# Altium footprint library 1-Antenna.P.PcbLib: 44 footprints (part 3 of 3)
Each footprint in its own frame and in the unit in brackets; x right, y up, seen from the top. Pads: shape width x height; smd on the part's side, far side on the other; paste and mask are expansions set on the pad; w line width, h text height; cw(c..) or ccw(c..) is an arc to the next point about the centre after c.
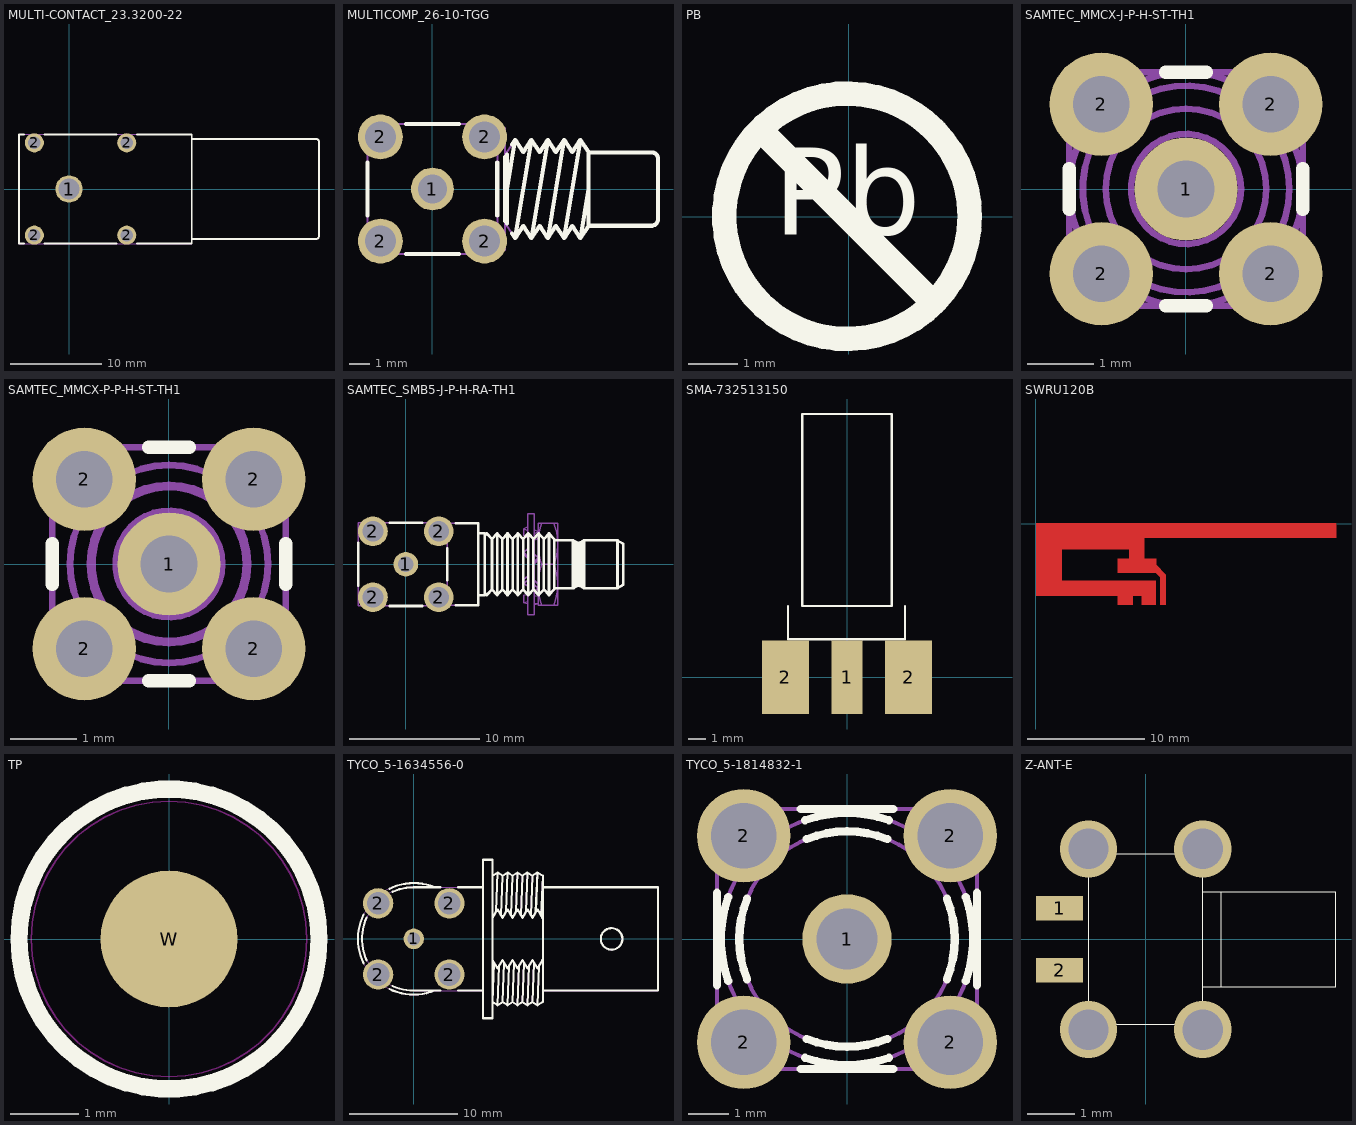
[diagram p2: the footprints below, top view; thin cyan lines are the x and y axes]

## MULTI-CONTACT_23.3200-22 [mm] "Multi-Contact Red Insulated ?4mm Angled Socket SLB4-I/90 For Banana 4mm"
height 11.5
pads (5):
  round 3 hole 2.3: 1(0,0)
  round 2.1 hole 1.4: 2(-3.81,-5.08) 2(-3.81,5.08) 2(6.35,-5.08) 2(6.35,5.08)
Top Overlay:
  lines w0.2: -4.931,-6 -5.5,-6 -5.5,6 -4.931,6 ; -2.689,-6 5.229,-6 ; -2.689,6 5.229,6 ; 7.471,-6 13.5,-6 13.5,6 7.471,6 ; 13.5,-5.5 27.2,-5.5 ccw(c27.2,-5.2) 27.5,-5.2 27.5,5.2 ccw(c27.2,5.2) 27.2,5.5 13.5,5.5
Mechanical 8:
  lines w0.1: -4.81,-5.08 -3.81,-5.08 ; -4.81,5.08 -3.81,5.08 ; -3.81,-6.08 -3.81,-5.08 ; -3.81,-4.08 -3.81,-5.08 ; -3.81,4.08 -3.81,5.08 ; -3.81,6.08 -3.81,5.08 ; -2.81,-5.08 -3.81,-5.08 ; -2.81,5.08 -3.81,5.08 ; -1,0 0,0 ; 0,-1 0,0 ; 0,1 0,0 ; 1,0 0,0 ; 5.35,-5.08 6.35,-5.08 ; 5.35,5.08 6.35,5.08 ; 6.35,-6.08 6.35,-5.08 ; 6.35,-4.08 6.35,-5.08 ; 6.35,4.08 6.35,5.08 ; 6.35,6.08 6.35,5.08 ; 7.35,-5.08 6.35,-5.08 ; 7.35,5.08 6.35,5.08
Mechanical 14:
  lines w0.1: 13.5,-5.5 27.2,-5.5 ccw(c27.2,-5.2) 27.5,-5.2 27.5,5.2 ccw(c27.2,5.2) 27.2,5.5 13.5,5.5 ; -5.5,-6 -5.5,6 13.5,6 13.5,-6 -5.5,-6
3D body "v300023.stp": height 0.04, standoff -1.66, extent -1.5,-1.5 1.5,1.5
3D body "v210014.stp": height 0.04, standoff -1.66, extent 5.25,4.01 7.35,6.11
3D body "v210014.stp": height 0.04, standoff -1.66, extent -4.9,4.03 -2.8,6.13
3D body "v210014.stp": height 0.04, standoff -1.66, extent -4.91,-6.15 -2.81,-4.05
3D body "v210014.stp": height 0.04, standoff -1.66, extent 5.25,-6.15 7.35,-4.05
3D body "MULTI-CONTACT_23.3200-22.stp": height 12.3, standoff -3.4, extent -5.5,-6 27.5,6

## MULTICOMP_26-10-TGG [mm] "50 Ohm Right Angle PCB Mount SMC Jack Receptacle"
height 7.1
pads (5):
  round 2.1 hole 1.4: 1(0,0)
  round 2.2 hole 1.5: 2(-2.55,-2.55) 2(-2.55,2.55) 2(2.55,-2.55) 2(2.55,2.55)
Top Overlay:
  lines w0.2: -3.175,-1.297 -3.175,1.297 ; -1.297,-3.175 1.297,-3.175 ; -1.297,3.175 1.297,3.175 ; 3.175,-1.297 3.175,1.297 ; 3.55,-1.57 3.55,1.57 ; 3.65,-1.684 3.65,1.684 ; 3.65,0 4.05,2.41 ; 3.903,-2.189 4.05,-2.41 ; 3.903,2.189 4.05,2.41 ; 7.65,-1.8 10.75,-1.8 ; 7.65,0 7.25,-2.41 ; 7.65,1.79 10.75,1.79 cw(c10.75,1.49) 11.05,1.49 ; 10.75,-1.79 ccw(c10.75,-1.49) 11.05,-1.49 ; 11.05,-1.5 11.05,1.5 ; 4.05,-2.41 4.45,-1.81 4.85,-2.41 ; 4.05,-2.41 4.85,2.41 ; 4.05,2.41 4.45,1.81 4.85,2.41 ; 4.85,-2.41 5.25,-1.81 5.65,-2.41 ; 4.85,-2.41 5.65,2.41 ; 4.85,2.41 5.25,1.81 5.65,2.41 ; 5.65,-2.41 6.05,-1.81 6.45,-2.41 ; 5.65,-2.41 6.45,2.41 ; 5.65,2.41 6.05,1.81 6.45,2.41 ; 6.45,-2.41 6.85,-1.81 7.25,-2.41 ; 6.45,-2.41 7.25,2.41 ; 6.45,2.41 6.85,1.81 7.25,2.41 ; 7.25,-2.41 7.65,-1.81 ; 7.25,2.41 7.65,1.81 ; 7.65,-1.81 7.65,1.81 ; 7.65,-1.81 7.65,1.81
Mechanical 8:
  lines w0.1: -3.05,-2.55 -2.55,-2.55 ; -3.05,2.55 -2.55,2.55 ; -2.55,-3.05 -2.55,-2.55 ; -2.55,-2.05 -2.55,-2.55 ; -2.55,2.05 -2.55,2.55 ; -2.55,3.05 -2.55,2.55 ; -2.05,-2.55 -2.55,-2.55 ; -2.05,2.55 -2.55,2.55 ; -0.5,0 0,0 ; 0,-0.5 0,0 ; 0,0.5 0,0 ; 0.5,0 0,0 ; 2.05,-2.55 2.55,-2.55 ; 2.05,2.55 2.55,2.55 ; 2.55,-3.05 2.55,-2.55 ; 2.55,-2.05 2.55,-2.55 ; 2.55,2.05 2.55,2.55 ; 2.55,3.05 2.55,2.55 ; 3.05,-2.55 2.55,-2.55 ; 3.05,2.55 2.55,2.55
Mechanical 14:
  lines w0.1: 3.175,-3 3.55,-3 3.55,3 3.175,3 ; 3.55,-1.81 3.65,-1.81 ; 3.55,1.81 3.65,1.81 ; 3.65,0 4.05,2.41 ; 7.65,-1.8 10.75,-1.8 ; 7.65,0 7.25,-2.41 ; 7.65,1.79 10.75,1.79 cw(c10.75,1.49) 11.05,1.49 ; 10.75,-1.79 ccw(c10.75,-1.49) 11.05,-1.49 ; 11.05,-1.5 11.05,1.5 ; 3.65,-1.81 4.05,-2.41 ; 3.65,-1.81 3.65,1.81 ; 3.65,1.81 4.05,2.41 ; 4.05,-2.41 4.45,-1.81 4.85,-2.41 ; 4.05,-2.41 4.85,2.41 ; 4.05,2.41 4.45,1.81 4.85,2.41 ; 4.85,-2.41 5.25,-1.81 5.65,-2.41 ; 4.85,-2.41 5.65,2.41 ; 4.85,2.41 5.25,1.81 5.65,2.41 ; 5.65,-2.41 6.05,-1.81 6.45,-2.41 ; 5.65,-2.41 6.45,2.41 ; 5.65,2.41 6.05,1.81 6.45,2.41 ; 6.45,-2.41 6.85,-1.81 7.25,-2.41 ; 6.45,-2.41 7.25,2.41 ; 6.45,2.41 6.85,1.81 7.25,2.41 ; 7.25,-2.41 7.65,-1.81 ; 7.25,2.41 7.65,1.81 ; 7.65,-1.81 7.65,1.81 ; 7.65,-1.81 7.65,1.81 ; -3.175,-3.175 3.175,-3.175 3.175,3.175 -3.175,3.175 -3.175,-3.175
3D body "v210014.stp": height 0.04, standoff -1.66, extent -3.6,-3.6 -1.5,-1.5
3D body "v210014.stp": height 0.04, standoff -1.66, extent -3.6,1.53 -1.5,3.63
3D body "v210014.stp": height 0.04, standoff -1.66, extent 1.4,1.53 3.5,3.63
3D body "v210014.stp": height 0.04, standoff -1.66, extent -1.1,-1.07 1,1.03
3D body "v220015.stp": height 0.04, standoff -1.66, extent 1.45,-3.65 3.65,-1.45
3D body "MULTICOMP_26-10-TGG.stp": height 7.1, standoff -3.9, extent -3.175,-3.175 11.05,3.175

## PB [mm]
Top Overlay:
  circle w0.5: c-0.031,0.013 r2.5
  lines w0.5: -1.737,1.719 1.675,-1.693
  text "Pb" at -1.536,-0.948 h3.05
3D body "pb.stp": height 0.02, standoff 0, extent -2.725,-2.725 2.725,2.725

## SAMTEC_MMCX-J-P-H-ST-TH1 [mm] "Straight Through-hole 50 Ohm Micro Mini RF Jack, MMCX Serie"
height 4.35
pads (5):
  round 1.55 hole 0.85: 1(0,0) 2(-1.27,-1.27) 2(-1.27,1.27) 2(1.27,-1.27) 2(1.27,1.27)
Top Overlay:
  lines w0.2: -1.75,-0.308 -1.75,0.308 ; -0.308,-1.75 0.308,-1.75 ; -0.308,1.75 0.308,1.75 ; 1.75,-0.308 1.75,0.308
Mechanical 8:
  lines w0.1: -1.77,-1.27 -1.27,-1.27 ; -1.77,1.27 -1.27,1.27 ; -1.27,-1.77 -1.27,-1.27 ; -1.27,-0.77 -1.27,-1.27 ; -1.27,0.77 -1.27,1.27 ; -1.27,1.77 -1.27,1.27 ; -0.77,-1.27 -1.27,-1.27 ; -0.77,1.27 -1.27,1.27 ; -0.5,0 0,0 ; 0,-0.5 0,0 ; 0,0.5 0,0 ; 0.5,0 0,0 ; 0.77,-1.27 1.27,-1.27 ; 0.77,1.27 1.27,1.27 ; 1.27,-1.77 1.27,-1.27 ; 1.27,-0.77 1.27,-1.27 ; 1.27,0.77 1.27,1.27 ; 1.27,1.77 1.27,1.27 ; 1.77,-1.27 1.27,-1.27 ; 1.77,1.27 1.27,1.27
Mechanical 14:
  circle w0.1: c0,0 r1.205
  circle w0.1: c0,0 r0.825
  circle w0.1: c0.002,0 r0.251
  circle w0.1: c0,0 r1.75
  circle w0.1: c0,0 r1.549
  lines w0.1: -1.75,-1.414 ccw(c0,0) -1.414,-1.75 1.414,-1.75 ccw(c0,0) 1.75,-1.414 1.75,1.414 ccw(c0,0) 1.414,1.75 -1.414,1.75 ccw(c0,0) -1.75,1.414 -1.75,-1.414
3D body "v155000085.stp": height 0.04, standoff -1.66, extent 0.495,-2.045 2.045,-0.495
3D body "v155000085.stp": height 0.04, standoff -1.66, extent -2.045,-2.045 -0.495,-0.495
3D body "v155000085.stp": height 0.04, standoff -1.66, extent -2.075,0.525 -0.525,2.075
3D body "v155000085.stp": height 0.04, standoff -1.66, extent 0.495,0.495 2.045,2.045
3D body "v155000085.stp": height 0.04, standoff -1.66, extent -0.775,-0.775 0.775,0.775
3D body "SAMTEC_MMCX-J-P-H-ST-TH1.stp": height 4.35, standoff -3.05, extent -1.75,-1.75 1.75,1.75

## SAMTEC_MMCX-P-P-H-ST-TH1 [mm] "Straight Through-hole 50 Ohm Micro Mini RF Plug, MMCX Serie"
height 4.35
pads (5):
  round 1.55 hole 0.85: 1(0,0) 2(-1.27,-1.27) 2(-1.27,1.27) 2(1.27,-1.27) 2(1.27,1.27)
Top Overlay:
  lines w0.2: -1.75,-0.308 -1.75,0.308 ; -0.308,-1.75 0.308,-1.75 ; -0.308,1.75 0.308,1.75 ; 1.75,-0.308 1.75,0.308
Mechanical 8:
  circle w0.1: c0,0 r1.15
  lines w0.1: -1.77,-1.27 -1.27,-1.27 ; -1.77,1.27 -1.27,1.27 ; -1.27,-1.77 -1.27,-1.27 ; -1.27,-0.77 -1.27,-1.27 ; -1.27,0.77 -1.27,1.27 ; -1.27,1.77 -1.27,1.27 ; -0.77,-1.27 -1.27,-1.27 ; -0.77,1.27 -1.27,1.27 ; -0.5,0 0,0 ; 0,-0.5 0,0 ; 0,0.5 0,0 ; 0.5,0 0,0 ; 0.77,-1.27 1.27,-1.27 ; 0.77,1.27 1.27,1.27 ; 1.27,-1.77 1.27,-1.27 ; 1.27,-0.77 1.27,-1.27 ; 1.27,0.77 1.27,1.27 ; 1.27,1.77 1.27,1.27 ; 1.77,-1.27 1.27,-1.27 ; 1.77,1.27 1.27,1.27
Mechanical 14:
  circle w0.1: c0,0 r0.8
  circle w0.1: c0,0 r1.19
  circle w0.1: c0,0 r1.485
  circle w0.1: c0,0 r0.05
  circle w0.1: c0,0 r0.138
  lines w0.1: -1.75,-1.414 ccw(c0,0) -1.414,-1.75 1.414,-1.75 ccw(c0,0) 1.75,-1.414 1.75,1.414 ccw(c0,0) 1.414,1.75 -1.414,1.75 ccw(c0,0) -1.75,1.414 -1.75,-1.414
3D body "SAMTEC_MMCX-P-P-H-ST-TH1.stp": height 4.35, standoff -3.05, extent -1.75,-1.75 1.75,1.75
3D body "v155000085.stp": height 0.04, standoff -1.66, extent 0.495,-2.045 2.045,-0.495
3D body "v155000085.stp": height 0.04, standoff -1.66, extent -0.775,-0.775 0.775,0.775
3D body "v155000085.stp": height 0.04, standoff -1.66, extent 0.495,0.495 2.045,2.045
3D body "v155000085.stp": height 0.04, standoff -1.66, extent -2.045,0.495 -0.495,2.045
3D body "v155000085.stp": height 0.04, standoff -1.66, extent -2.045,-2.045 -0.495,-0.495

## SAMTEC_SMB5-J-P-H-RA-TH1 [mm] "50 Ohm SMB Right Angle PCB Jack"
height 8.13
pads (5):
  round 1.9 hole 1.2: 1(0,0)
  round 2.3 hole 1.6: 2(-2.54,-2.54) 2(-2.54,2.54) 2(2.54,-2.54) 2(2.54,2.54)
Top Overlay:
  lines w0.2: -3.68,-1.644 -3.68,1.644 ; -1.257,-3.215 1.257,-3.215 ; -1.257,3.215 1.257,3.215 ; 3.844,-3.174 5.59,-3.174 5.59,3.174 3.844,3.174 ; 5.59,-2.4 6.09,-2.4 6.09,2.4 5.59,2.4 ; 6.09,-2.214 6.24,-2.38 6.64,-1.937 ; 6.09,2.214 6.24,2.38 6.64,1.937 ; 11.44,-1.84 12.872,-1.84 ; 11.44,1.84 12.872,1.84 ; 6.64,-1.937 7.04,-2.38 ; 6.64,-1.937 6.64,1.937 ; 6.64,1.937 7.04,2.38 ; 7.04,-2.38 7.44,-1.937 ; 7.04,-2.38 7.04,2.38 ; 7.04,2.38 7.44,1.937 ; 7.44,-1.937 7.84,-2.38 ; 7.44,-1.937 7.44,1.937 ; 7.44,1.937 7.84,2.38 ; 7.84,-2.38 8.24,-1.937 ; 7.84,-2.38 7.84,2.38 ; 7.84,2.38 8.24,1.937 ; 8.24,-1.937 8.64,-2.38 ; 8.24,-1.937 8.24,1.937 ; 8.24,1.937 8.64,2.38 ; 8.64,-2.38 9.04,-1.937 ; 8.64,-2.38 8.64,2.38 ; 8.64,2.38 9.04,1.937 ; 9.04,-1.937 9.44,-2.38 ; 9.04,-1.937 9.04,1.937 ; 9.04,1.937 9.44,2.38 ; 9.44,-2.38 9.84,-1.937 ; 9.44,-2.38 9.44,2.38 ; 9.44,2.38 9.84,1.937 ; 9.84,-1.937 10.24,-2.38 ; 9.84,-1.937 9.84,1.937 ; 9.84,1.937 10.24,2.38 ; 10.24,-2.38 10.64,-1.937 ; 10.24,-2.38 10.24,2.38 ; 10.24,2.38 10.64,1.937 ; 10.64,-1.937 11.04,-2.38 ; 10.64,-1.937 10.64,1.937 ; 10.64,1.937 11.04,2.38 ; 11.04,-2.38 11.44,-1.937 11.44,1.937 11.04,2.38 ; 11.04,-2.38 11.04,2.38 ; 12.872,-1.84 ccw(c12.872,-1.689) 12.952,-1.817 ; 12.872,-1.84 12.872,1.84 ; 12.872,1.84 cw(c12.872,1.689) 12.952,1.817 ; 12.952,-1.817 12.952,1.817 ; 12.952,-1.817 13.156,-1.689 ; 12.952,1.817 13.156,1.689 ; 13.156,-1.689 cw(c13.22,-1.792) 13.22,-1.671 ; 13.156,-1.689 13.156,1.689 ; 13.156,1.689 ccw(c13.22,1.792) 13.22,1.671 ; 13.22,-1.671 13.22,1.671 ; 13.22,-1.671 13.42,-1.671 ; 13.22,1.671 13.42,1.671 ; 13.42,-1.671 cw(c13.42,-1.791) 13.484,-1.689 ; 13.42,-1.671 13.42,1.671 ; 13.42,1.671 ccw(c13.42,1.791) 13.484,1.689 ; 13.484,-1.689 13.484,1.689 ; 13.484,-1.689 13.688,-1.817 ; 13.484,1.689 13.688,1.817 ; 13.688,-1.817 ccw(c13.768,-1.689) 13.768,-1.84 ; 13.688,-1.817 13.688,1.817 ; 13.688,1.817 cw(c13.768,1.689) 13.768,1.84 ; 13.768,-1.84 13.768,1.84 ; 13.768,-1.84 16.32,-1.84 ; 13.768,1.84 16.32,1.84 ; 16.32,-1.84 16.77,-1.582 16.77,1.582 16.32,1.84 ; 16.32,-1.84 16.32,1.84 ; 3.18,-1.239 3.18,1.239 3.18,-1.239
Mechanical 8:
  lines w0.1: -3.04,-2.54 -2.54,-2.54 ; -3.04,2.54 -2.54,2.54 ; -2.54,-3.04 -2.54,-2.54 ; -2.54,-2.04 -2.54,-2.54 ; -2.54,2.04 -2.54,2.54 ; -2.54,3.04 -2.54,2.54 ; -2.04,-2.54 -2.54,-2.54 ; -2.04,2.54 -2.54,2.54 ; -0.5,0 0,0 ; 0,-0.5 0,0 ; 0,0.5 0,0 ; 0.5,0 0,0 ; 2.04,-2.54 2.54,-2.54 ; 2.04,2.54 2.54,2.54 ; 2.54,-3.04 2.54,-2.54 ; 2.54,-2.04 2.54,-2.54 ; 2.54,2.04 2.54,2.54 ; 2.54,3.04 2.54,2.54 ; 3.04,-2.54 2.54,-2.54 ; 3.04,2.54 2.54,2.54 ; 9.395,-2.34 9.105,-2.387 9.105,-2.973 ; 9.405,-3.045 9.105,-2.973 ; 9.405,-2.901 9.105,-2.973 ; 9.405,-1.677 9.105,-1.459 ; 9.405,-1.226 9.105,-1.459 ; 9.405,-0.927 9.105,-1.14 9.105,-1.459 ; 9.405,0.459 9.105,0.776 9.105,0.909 ; 9.405,0.592 9.105,0.909 ; 9.405,1.179 9.105,0.909 ; 9.405,2.064 9.105,2.237 9.105,2.744 ; 9.405,2.571 9.105,2.744 ; 9.405,2.892 9.105,2.744 ; 9.905,-3.135 10.205,-3.063 ; 9.905,-2.991 10.205,-3.063 ; 9.905,-2.078 10.205,-1.844 ; 9.905,-1.569 10.205,-1.844 ; 9.905,-1.249 10.205,-1.524 10.205,-1.844 ; 9.905,0.052 10.205,0.369 ; 9.905,0.185 10.205,0.502 9.905,0.772 ; 9.905,0.197 9.905,0.469 ; 9.905,1.847 10.205,1.995 10.205,2.502 ; 9.905,2.355 10.205,2.502 ; 9.905,2.675 10.205,2.502 ; 9.915,-2.43 10.205,-2.478 10.205,-3.063 ; 10.205,-3.073 10.205,-2.373 ; 10.489,-3.175 cw(c14.774,-1.587) 10.489,0 11.421,0 cw(c7.136,-1.587) 11.421,-3.175 ; 10.489,-0.019 cw(c14.824,1.578) 10.489,3.175 ; 11.421,-0.019 ccw(c7.086,1.578) 11.421,3.175 ; 9.905,-3.9 9.905,3.9 ; 9.905,-3.9 9.905,3.9 ; 9.905,-3.9 9.405,-3.9 9.405,3.9 9.905,3.9 ; 10.205,-3.175 11.705,-3.175 11.705,3.175 10.205,3.175 10.205,-3.175
Mechanical 14:
  circle w0.1: c0,0 r0.63
  lines w0.1: 3.18,-3.174 5.59,-3.174 5.59,3.174 3.18,3.174 ; 3.18,-3.149 3.18,3.149 ; 5.59,-2.4 6.09,-2.4 6.09,2.4 5.59,2.4 ; 6.09,-2.214 6.24,-2.38 6.64,-1.937 ; 6.09,2.214 6.24,2.38 6.64,1.937 ; 11.44,-1.84 12.872,-1.84 ; 11.44,1.84 12.872,1.84 ; 6.64,-1.937 7.04,-2.38 ; 6.64,-1.937 6.64,1.937 ; 6.64,1.937 7.04,2.38 ; 7.04,-2.38 7.44,-1.937 ; 7.04,-2.38 7.04,2.38 ; 7.04,2.38 7.44,1.937 ; 7.44,-1.937 7.84,-2.38 ; 7.44,-1.937 7.44,1.937 ; 7.44,1.937 7.84,2.38 ; 7.84,-2.38 8.24,-1.937 ; 7.84,-2.38 7.84,2.38 ; 7.84,2.38 8.24,1.937 ; 8.24,-1.937 8.64,-2.38 ; 8.24,-1.937 8.24,1.937 ; 8.24,1.937 8.64,2.38 ; 8.64,-2.38 9.04,-1.937 ; 8.64,-2.38 8.64,2.38 ; 8.64,2.38 9.04,1.937 ; 9.04,-1.937 9.44,-2.38 ; 9.04,-1.937 9.04,1.937 ; 9.04,1.937 9.44,2.38 ; 9.44,-2.38 9.84,-1.937 ; 9.44,-2.38 9.44,2.38 ; 9.44,2.38 9.84,1.937 ; 9.84,-1.937 10.24,-2.38 ; 9.84,-1.937 9.84,1.937 ; 9.84,1.937 10.24,2.38 ; 10.24,-2.38 10.64,-1.937 ; 10.24,-2.38 10.24,2.38 ; 10.24,2.38 10.64,1.937 ; 10.64,-1.937 11.04,-2.38 ; 10.64,-1.937 10.64,1.937 ; 10.64,1.937 11.04,2.38 ; 11.04,-2.38 11.44,-1.937 11.44,1.937 11.04,2.38 ; 11.04,-2.38 11.04,2.38 ; 12.872,-1.84 ccw(c12.872,-1.689) 12.952,-1.817 ; 12.872,-1.84 12.872,1.84 ; 12.872,1.84 cw(c12.872,1.689) 12.952,1.817 ; 12.952,-1.817 12.952,1.817 ; 12.952,-1.817 13.156,-1.689 ; 12.952,1.817 13.156,1.689 ; 13.156,-1.689 cw(c13.22,-1.792) 13.22,-1.671 ; 13.156,-1.689 13.156,1.689 ; 13.156,1.689 ccw(c13.22,1.792) 13.22,1.671 ; 13.22,-1.671 13.22,1.671 ; 13.22,-1.671 13.42,-1.671 ; 13.22,1.671 13.42,1.671 ; 13.42,-1.671 cw(c13.42,-1.791) 13.484,-1.689 ; 13.42,-1.671 13.42,1.671 ; 13.42,1.671 ccw(c13.42,1.791) 13.484,1.689 ; 13.484,-1.689 13.484,1.689 ; 13.484,-1.689 13.688,-1.817 ; 13.484,1.689 13.688,1.817 ; 13.688,-1.817 ccw(c13.768,-1.689) 13.768,-1.84 ; 13.688,-1.817 13.688,1.817 ; 13.688,1.817 cw(c13.768,1.689) 13.768,1.84 ; 13.768,-1.84 13.768,1.84 ; 13.768,-1.84 16.32,-1.84 ; 13.768,1.84 16.32,1.84 ; 16.32,-1.84 16.77,-1.582 16.77,1.582 16.32,1.84 ; 16.32,-1.84 16.32,1.84 ; -3.68,-3.215 3.18,-3.215 3.18,3.215 -3.68,3.215 -3.68,-3.215
3D body "v230016.stp": height 0.04, standoff -1.66, extent 1.35,1.35 3.65,3.65
3D body "v230016.stp": height 0.04, standoff -1.66, extent -3.69,1.39 -1.39,3.69
3D body "v230016.stp": height 0.04, standoff -1.66, extent -1.15,-1.15 1.15,1.15
3D body "v230016.stp": height 0.04, standoff -1.66, extent 1.39,-3.69 3.69,-1.39
3D body "v230016.stp": height 0.04, standoff -1.66, extent -3.69,-3.69 -1.39,-1.39
3D body "SAMTEC_SMB5-J-P-H-RA-TH1.stp": height 8.13, standoff -2.79, extent -3.68,-3.215 16.77,3.215
3D body "SAMTEC_SMB5-J-P-H-RA-TH1_Washer.stp": height 8.4, standoff 0.6, extent 9.105,-3.899 10.205,3.899
3D body "SAMTEC_SMB5-J-P-H-RA-TH1_Nut.stp": height 8.17, standoff 0.83, extent 10.205,-3.175 11.705,3.175

## SMA-732513150 [mm]
height 5
pads (3):
  rect 1.78x4.19 smd: 1(0,0)
  rect 2.665x4.19 smd: 2(-3.5,0) 2(3.5,0)
Top Overlay:
  lines w0.127: -3.353,4.039 -3.353,2.159 3.302,2.159 3.302,4.039 ; -2.54,4.039 -2.54,14.961 2.54,14.961 2.54,4.039 -2.54,4.039
3D body "p1842.stp": height 0.01, standoff 0, extent -0.892,-2.092 0.908,2.108
3D body "p26642.stp": height 0.01, standoff 0, extent -4.805,-2.164 -2.145,2.036
3D body "p26642.stp": height 0.01, standoff 0, extent 2.162,-2.116 4.822,2.084
3D body "sma-732513150.stp": height 3.83, standoff -2.52, extent -3.175,-1.346 3.175,14.914

## SWRU120B [mm]
Top Layer:
  region: 0.021,0.014 25.581,0.014 25.581,-1.199 9.243,-1.199 9.243,-2.998 10.249,-2.998 10.249,-3.532 11.094,-4.377 11.094,-6.911 10.625,-6.911 10.625,-4.59 10.245,-4.21 6.972,-4.209 6.972,-2.998 7.977,-2.998 7.977,-2.198 2.218,-2.198 2.218,-4.87 10.245,-4.87 10.245,-6.911 9.017,-6.911 9.017,-6.17 8.267,-6.17 8.267,-6.911 6.972,-6.911 6.972,-6.17 0.021,-6.17
3D body "swru120b.stp": height 0.05, standoff 0, extent -0.005,-6.876 25.575,0.034

## TP [mm]
height 11.7
pads (1):
  round 2 smd mask+1: W(0,0)
Top Overlay:
  circle w0.254: c0,0 r2.195
Keep-Out Layer:
  circle w0.025: c0,0 r2.017
3D body "1_016-1_016-3_tp.stp": height 0.02, standoff 0, extent -1.5,-1.5 1.5,1.5

## TYCO_5-1634556-0 [mm] "Right Angle Bulkhead 75 Ohms BNC"
height 10.94
pads (5):
  round 1.9 hole 1.2: 1(0,0)
  round 2.8 hole 2.1: 2(-3.3,-3.3) 2(-3.3,3.3) 2(3.3,-3.3) 2(3.3,3.3)
Top Overlay:
  circle w0.2: c18.33,0 r1
  lines w0.2: -4.646,-2.262 cw(c0,-0.001) -4.646,2.261 ; -4.364,-1.974 cw(c0,0) -4.364,1.974 ; -2.262,-4.646 ccw(c0,-0.001) 1.939,-4.79 ; -2.261,4.645 cw(c0,-0.001) 1.935,4.79 ; -1.974,-4.364 ccw(c0,0) 0,-4.79 2.482,-4.79 ; -1.974,4.364 cw(c0,0) 0,4.79 2.482,4.79 ; 4.118,-4.79 6.42,-4.79 ; 4.118,4.79 6.42,4.79 ; 6.42,-7.35 7.31,-7.35 7.31,7.331 6.42,7.331 6.42,-7.331 ; 7.31,-1.965 7.77,-2.732 8.23,-1.965 8.69,-2.732 9.15,-1.965 9.61,-2.732 10.07,-1.965 10.53,-2.732 10.99,-1.965 11.45,-2.732 11.91,-1.965 11.96,-1.965 ; 7.31,1.965 7.77,2.732 8.23,1.965 8.69,2.732 9.15,1.965 9.61,2.732 10.07,1.965 10.53,2.732 10.99,1.965 11.45,2.732 11.91,1.965 11.96,1.965 ; 7.31,5.85 7.77,6.15 ; 7.45,-2.199 7.31,-5.85 7.77,-6.15 ; 7.63,2.499 7.77,6.15 ; 7.91,-2.499 7.77,-6.15 ; 8.09,2.199 8.23,5.85 ; 8.37,-2.199 8.23,-5.85 ; 8.55,2.499 8.69,6.15 ; 8.83,-2.499 8.69,-6.15 ; 9.01,2.199 9.15,5.85 ; 9.29,-2.199 9.15,-5.85 ; 9.47,2.499 9.61,6.15 ; 9.75,-2.499 9.61,-6.15 ; 9.93,2.199 10.07,5.85 ; 10.21,-2.199 10.07,-5.85 ; 10.39,2.499 10.53,6.15 ; 10.67,-2.499 10.53,-6.15 ; 10.85,2.199 10.99,5.85 ; 11.13,-2.199 10.99,-5.85 ; 11.31,2.499 11.45,6.15 ; 11.606,-2.471 11.45,-6.15 ; 11.803,2.144 11.96,5.85 ; 11.96,-4.79 22.63,-4.79 22.63,4.79 11.96,4.79 ; 7.77,-6.15 8.23,-5.85 ; 7.77,6.15 8.23,5.85 ; 8.23,-5.85 8.69,-6.15 ; 8.23,5.85 8.69,6.15 ; 8.69,-6.15 9.15,-5.85 ; 8.69,6.15 9.15,5.85 ; 9.15,-5.85 9.61,-6.15 ; 9.15,5.85 9.61,6.15 ; 9.61,-6.15 10.07,-5.85 ; 9.61,6.15 10.07,5.85 ; 10.07,-5.85 10.53,-6.15 ; 10.07,5.85 10.53,6.15 ; 10.53,-6.15 10.99,-5.85 ; 10.53,6.15 10.99,5.85 ; 10.99,-5.85 11.45,-6.15 ; 10.99,5.85 11.45,6.15 ; 11.45,-6.15 11.96,-5.85 11.96,5.85 ; 11.45,6.15 11.96,5.85
Mechanical 8:
  lines w0.1: -3.8,-3.3 -3.3,-3.3 ; -3.8,3.3 -3.3,3.3 ; -3.3,-3.8 -3.3,-3.3 ; -3.3,-2.8 -3.3,-3.3 ; -3.3,2.8 -3.3,3.3 ; -3.3,3.8 -3.3,3.3 ; -2.8,-3.3 -3.3,-3.3 ; -2.8,3.3 -3.3,3.3 ; -0.5,0 0,0 ; 0,-0.5 0,0 ; 0,0.5 0,0 ; 0.5,0 0,0 ; 2.8,-3.3 3.3,-3.3 ; 2.8,3.3 3.3,3.3 ; 3.3,-3.8 3.3,-3.3 ; 3.3,-2.8 3.3,-3.3 ; 3.3,2.8 3.3,3.3 ; 3.3,3.8 3.3,3.3 ; 3.8,-3.3 3.3,-3.3 ; 3.8,3.3 3.3,3.3
Mechanical 14:
  circle w0.1: c18.33,0 r1
  lines w0.1: 1.935,4.79 ccw(c0,-0.001) 1.939,-4.79 ; 6.42,-7.35 7.31,-7.35 7.31,7.331 6.42,7.331 6.42,-7.331 ; 6.42,-4.79 0,-4.79 cw(c0,0) 0,4.79 6.42,4.79 ; 7.31,-1.965 7.77,-2.732 8.23,-1.965 8.69,-2.732 9.15,-1.965 9.61,-2.732 10.07,-1.965 10.53,-2.732 10.99,-1.965 11.45,-2.732 11.91,-1.965 11.96,-1.965 ; 7.31,1.965 7.77,2.732 8.23,1.965 8.69,2.732 9.15,1.965 9.61,2.732 10.07,1.965 10.53,2.732 10.99,1.965 11.45,2.732 11.91,1.965 11.96,1.965 ; 7.31,5.85 7.77,6.15 ; 7.45,-2.199 7.31,-5.85 7.77,-6.15 ; 7.63,2.499 7.77,6.15 ; 7.91,-2.499 7.77,-6.15 ; 8.09,2.199 8.23,5.85 ; 8.37,-2.199 8.23,-5.85 ; 8.55,2.499 8.69,6.15 ; 8.83,-2.499 8.69,-6.15 ; 9.01,2.199 9.15,5.85 ; 9.29,-2.199 9.15,-5.85 ; 9.47,2.499 9.61,6.15 ; 9.75,-2.499 9.61,-6.15 ; 9.93,2.199 10.07,5.85 ; 10.21,-2.199 10.07,-5.85 ; 10.39,2.499 10.53,6.15 ; 10.67,-2.499 10.53,-6.15 ; 10.85,2.199 10.99,5.85 ; 11.13,-2.199 10.99,-5.85 ; 11.31,2.499 11.45,6.15 ; 11.606,-2.471 11.45,-6.15 ; 11.803,2.144 11.96,5.85 ; 11.96,-4.79 22.63,-4.79 22.63,4.79 11.96,4.79 ; 7.77,-6.15 8.23,-5.85 ; 7.77,6.15 8.23,5.85 ; 8.23,-5.85 8.69,-6.15 ; 8.23,5.85 8.69,6.15 ; 8.69,-6.15 9.15,-5.85 ; 8.69,6.15 9.15,5.85 ; 9.15,-5.85 9.61,-6.15 ; 9.15,5.85 9.61,6.15 ; 9.61,-6.15 10.07,-5.85 ; 9.61,6.15 10.07,5.85 ; 10.07,-5.85 10.53,-6.15 ; 10.07,5.85 10.53,6.15 ; 10.53,-6.15 10.99,-5.85 ; 10.53,6.15 10.99,5.85 ; 10.99,-5.85 11.45,-6.15 ; 10.99,5.85 11.45,6.15 ; 11.45,-6.15 11.96,-5.85 11.96,5.85 ; 11.45,6.15 11.96,5.85
3D body "v280021.stp": height 0.04, standoff -1.66, extent 1.9,1.9 4.7,4.7
3D body "v280021.stp": height 0.04, standoff -1.66, extent -4.7,1.9 -1.9,4.7
3D body "v280021.stp": height 0.04, standoff -1.66, extent -4.7,-4.7 -1.9,-1.9
3D body "v280021.stp": height 0.04, standoff -1.66, extent 1.9,-4.7 4.7,-1.9
3D body "TYCO_5-1634556-0.stp": height 11.66, standoff -3.58, extent -5.167,-7.349 22.63,7.451

## TYCO_5-1814832-1 [mm] "50 Ohm SMA Straight PCB Die Socket"
height 13.5
pads (5):
  round 2.2 hole 1.5: 1(0,0)
  round 2.3 hole 1.6: 2(-2.54,-2.54) 2(-2.54,2.54) 2(2.54,-2.54) 2(2.54,2.54)
Top Overlay:
  lines w0.2: -3.2,-1.138 -3.2,1.138 ; -2.921,-1.038 cw(c0,0) -2.921,1.038 ; -2.457,-0.992 cw(c0,0) -2.457,0.992 ; -1.138,-3.2 1.138,-3.2 ; -1.138,3.2 1.138,3.2 ; -1.038,-2.921 ccw(c0,0) 1.038,-2.921 ; -1.038,2.921 cw(c0,0) 1.038,2.921 ; -0.992,-2.457 ccw(c0,0) 0.992,-2.457 ; -0.992,2.457 cw(c0,0) 0.992,2.457 ; 2.457,-0.992 ccw(c0,0) 2.457,0.992 ; 2.921,-1.038 ccw(c0,0) 2.921,1.038 ; 3.2,-1.138 3.2,1.138
Mechanical 8:
  lines w0.1: -3.54,-2.54 -2.54,-2.54 ; -3.54,2.54 -2.54,2.54 ; -2.54,-3.54 -2.54,-2.54 ; -2.54,-1.54 -2.54,-2.54 ; -2.54,1.54 -2.54,2.54 ; -2.54,3.54 -2.54,2.54 ; -1.54,-2.54 -2.54,-2.54 ; -1.54,2.54 -2.54,2.54 ; -1,0 0,0 ; 0,-1 0,0 ; 0,1 0,0 ; 1,0 0,0 ; 1.54,-2.54 2.54,-2.54 ; 1.54,2.54 2.54,2.54 ; 2.54,-3.54 2.54,-2.54 ; 2.54,-1.54 2.54,-2.54 ; 2.54,1.54 2.54,2.54 ; 2.54,3.54 2.54,2.54 ; 3.54,-2.54 2.54,-2.54 ; 3.54,2.54 2.54,2.54
Mechanical 14:
  circle w0.1: c0,0 r0.5
  circle w0.1: c0,0 r2.65
  circle w0.1: c0,0 r3.1
  lines w0.1: -3.2,-2.797 -2.797,-3.2 2.797,-3.2 3.2,-2.797 3.2,2.797 2.797,3.2 -2.797,3.2 -3.2,2.797 -3.2,-2.797
3D body "TYCO_5-1814832-1.stp": height 9.5, standoff -4, extent -3.2,-3.2 3.2,3.2
3D body "v230016.stp": height 0.04, standoff -1.66, extent 1.39,-3.69 3.69,-1.39
3D body "v230016.stp": height 0.04, standoff -1.66, extent -1.21,-1.19 1.09,1.11
3D body "v230016.stp": height 0.04, standoff -1.66, extent -3.71,-3.69 -1.41,-1.39
3D body "v230016.stp": height 0.04, standoff -1.66, extent -3.71,1.41 -1.41,3.71
3D body "v230016.stp": height 0.04, standoff -1.66, extent 1.39,1.41 3.69,3.71

## Z-ANT-E [mil]
height 728.35
pads (2):
  rect 39x20 smd mask+2: 1(-71.18,25.59) 2(-71.18,-25.59)
via -47.24,-74.8 diameter 47.24 hole 33.46
via 47.24,-74.8 diameter 47.24 hole 33.46
via 47.24,74.8 diameter 47.24 hole 33.46
via -47.24,74.8 diameter 47.24 hole 33.46
Top Overlay:
  lines w0.79: 47.24,-39.37 157.48,-39.37 157.48,39.37 47.24,39.37 ; 62.6,-39.37 62.6,39.37 ; -47.24,-70.47 -47.24,70.87 47.24,70.87 47.24,-70.47 -47.24,-70.47
3D body "ant_l.stp": height 118.11, standoff -39.37, extent -68.29,-74.61 170.29,75